# EAGLE library part MAGJACK (library controller-r3)
10/100BT Vertical Shielded RJ45 Jack with integrated magnetics 1CT:1CT turn ratio 350uH inductance, 1.2 Ohms DC resistance
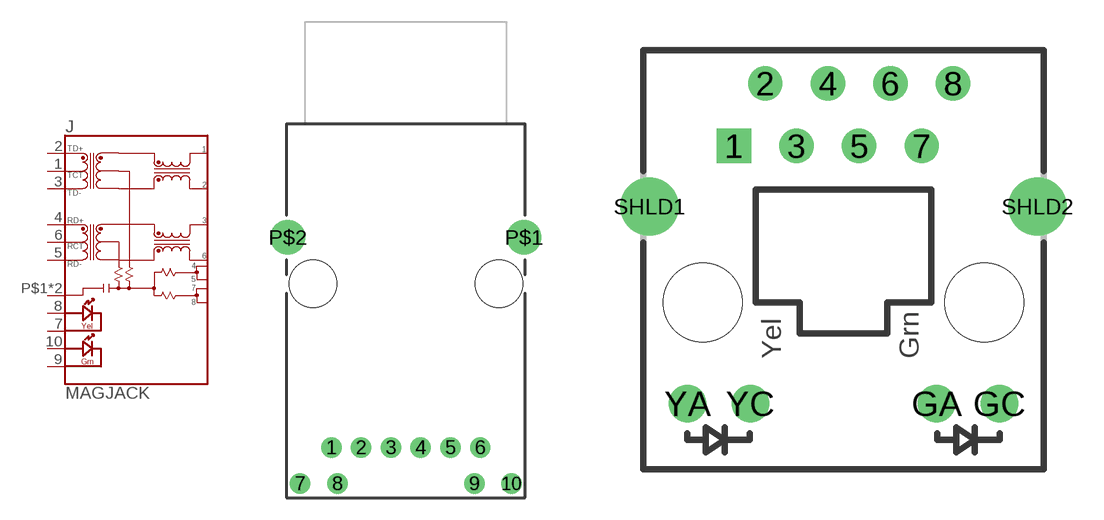
[diagram p2: symbol with the pads of 08B0-1X1T-36-F; footprints 08B0-1X1T-36-F, SI-46001-F]

Designator prefix J

## MAGJACK-08B0-1X1T-36-F  [08B0-1X1T-36-F]
1  TCT  pas
2  TD+  pas
3  TD-  pas
4  RD+  pas
5  RD-  pas
6  RCT  pas
7  YC  pas
8  YA  pas
9  GC  pas
10  GA  pas
P$1  CHASSIS  pas
P$2  CHASSIS  pas

## MAGJACK-SI-46001-F  [SI-46001-F]
1  TD+  pas
2  TCT  pas
3  TD-  pas
4  RD+  pas
5  RCT  pas
6  RD-  pas
8  CHASSIS  pas
GA  GA  pas
GC  GC  pas
SHLD1  CHASSIS  pas
SHLD2  CHASSIS  pas
YA  YA  pas
YC  YC  pas

## MAGJACK-SI-60062-F  [SI-60062-F]
1  TD+  pas
2  TCT  pas
3  TD-  pas
4  RD+  pas
5  RCT  pas
6  RD-  pas
8  CHASSIS  pas
GA  GA  pas
GC  GC  pas
P$1  CHASSIS  pas
P$2  CHASSIS  pas
YA  YA  pas
YC  YC  pas

## Footprint 08B0-1X1T-36-F (pad centres in mm)
Single port MagJack with tab up, yellow LED, orange/green bidirectional LED
drill 0.889: 1 -5.08,-14.351; 2 -3.048,-14.351; 3 -1.016,-14.351; 4 1.016,-14.351; 5 3.048,-14.351; 6 5.08,-14.351; 7 -7.214,-16.815; 8 -4.674,-16.815; 9 4.674,-16.815; 10 7.214,-16.815
drill 1.575: P$1 8.065,0; P$2 -8.065,0
hole 3.251 at -6.35,-3.175
hole 3.251 at 6.35,-3.175

## Footprint SI-46001-F (pad centres in mm)
drill 0.889 square: 1 -4.445,6.35
drill 0.889: 2 -3.175,8.89; 3 -1.905,6.35; 4 -0.635,8.89; 5 0.635,6.35; 6 1.905,8.89; 7 3.175,6.35; 8 4.445,8.89
drill 1.016: GA 3.785,-4.115; GC 6.325,-4.115; YA -6.325,-4.115; YC -3.785,-4.115
drill 1.575: SHLD1 -7.874,3.886; SHLD2 7.874,3.886
hole 3.2 at 5.715,0
hole 3.2 at -5.715,0

## Footprint SI-60062-F (pad centres in mm)
drill 0.889: 1 -4.445,6.35; 2 -3.175,8.89; 3 -1.905,6.35; 4 -0.635,8.89; 5 0.635,6.35; 6 1.905,8.89; 7 3.175,6.35; 8 4.445,8.89
drill 1.016: GA 4.089,-4.064; GC 6.629,-4.064; YA -6.629,-4.064; YC -4.089,-4.064
drill 1.575: P$1 -7.747,3.048; P$2 7.747,3.048
hole 3.2 at -5.715,0
hole 3.2 at 5.715,0